# Altium schematic symbol library AD7175-8.SchLib: 3 symbols
Pins are listed as number, name and electrical type; pins without a type are passive.

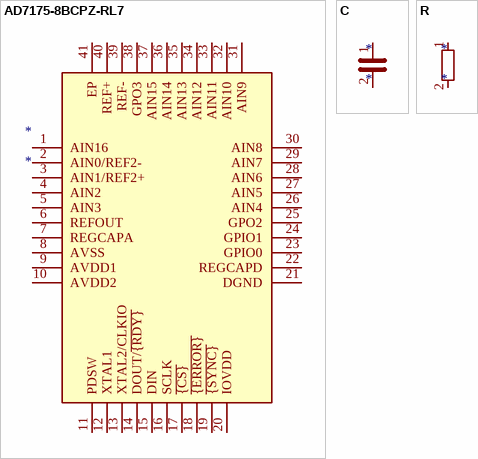
[diagram p0: symbols AD7175-8BCPZ-RL7 to R]

## AD7175-8BCPZ-RL7
designator *
pins: 1 AIN16, 2 AIN0/REF2-, 3 AIN1/REF2+, 4 AIN2, 5 AIN3, 6 REFOUT, 7 REGCAPA, 8 AVSS, 9 AVDD1, 10 AVDD2, 11 PDSW, 12 XTAL1, 13 XTAL2/CLKIO, 14 DOUT/~{{RDY}}, 15 DIN, 16 SCLK, 17 ~{{CS}}, 18 ~{{ERROR}}, 19 ~{{SYNC}}, 20 IOVDD, 21 DGND, 22 REGCAPD, 23 GPIO0, 24 GPIO1, 25 GPO2, 26 AIN4, 27 AIN5, 28 AIN6, 29 AIN7, 30 AIN8, 31 AIN9, 32 AIN10, 33 AIN11, 34 AIN12, 35 AIN13, 36 AIN14, 37 AIN15, 38 GPO3, 39 REF-, 40 REF+, 41 EP

## C
designator *
pins: 1, 2

## R
designator *
pins: 1, 2